# Altium integrated library 74X Series Logic.IntLib: 56 symbols (part 1 of 2)
Pins are listed as number, name and electrical type; pins without a type are passive.

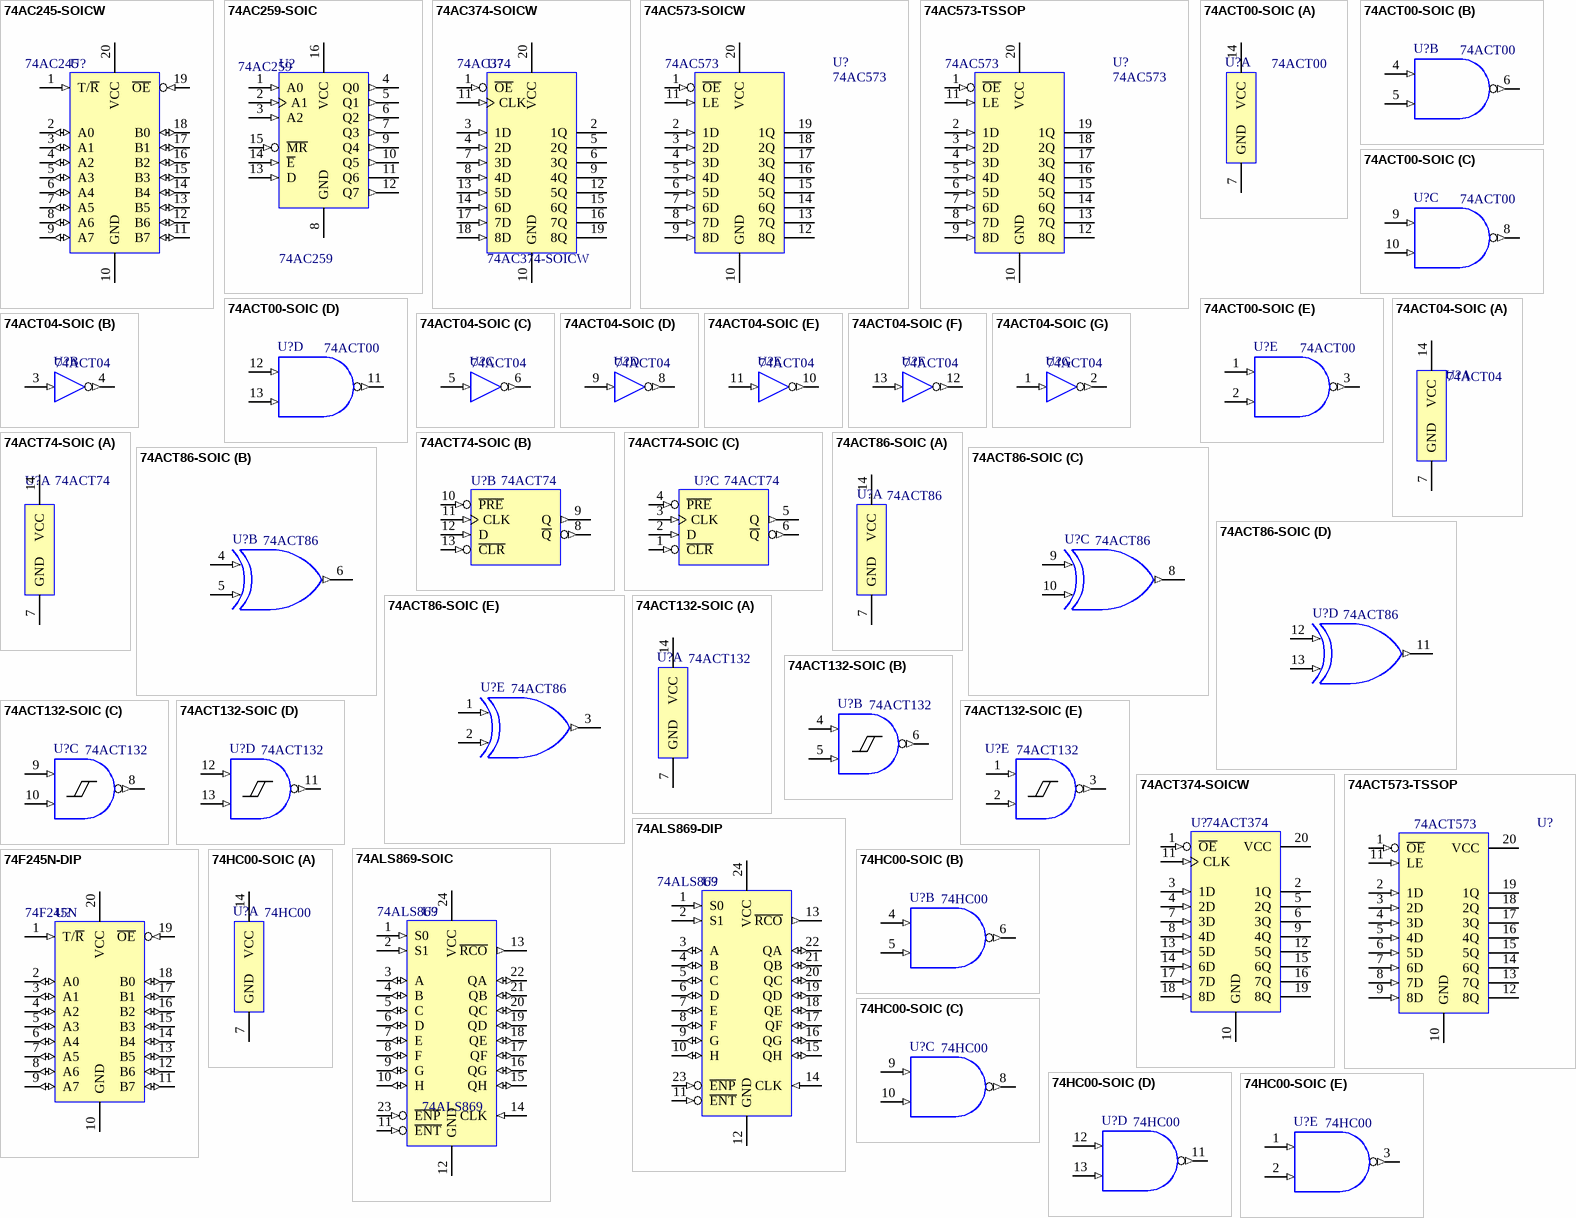
[diagram p0: symbols 74AC245-SOICW to 74HC00-SOIC]

## 74AC245-SOICW
designator U?, comment 74AC245
Octal Bidirectional Transceiver with 3 State I/O; Manufacturer: Texas Instruments/Fairchild Semiconductor/NXP Semiconductor; Output Current (High/Low): 24mA/24mA; Supply Voltage: 2V~6V; Logic Level (High): *; Logic Level (Low): *; Logic Type: Transceiver; Max Propagation Delay: *; Package Description: SOIC, 20-Leads, Body 12.80x7.50mm, Pitch 1.27mm, IPC Low Density; Package Type: SOIC-20-WIDE; Supplier 1: Mouser; Supplier Part Number 1: 595-CD74AC245M; Supplier 2: Digi-Key; Supplier Part Number 2: 296-32960-5-ND; Supplier 3: Newark; Supplier Part Number 3: 25M8563; Verified By: KMc; Part Number: 74AC245
footprint SOIC-20-WIDE (SOIC, 20-Leads, Body 12.80x7.50mm, Pitch 1.27mm, IPC Low Density)
3D model SOIC_20-wide (PCB3D Model)
ibis MC74AC245DW_5 (74AC245 5V IBIS model)
signal-integrity model 74AC246_5V (74AC246 5V IBIS Signal integrity model)
pins: 1 T/~{R} (in), 2 A0 (io), 3 A1 (io), 4 A2 (io), 5 A3 (io), 6 A4 (io), 7 A5 (io), 8 A6 (io), 9 A7 (io), 10 GND (power), 11 B7 (io), 12 B6 (io), 13 B5 (io), 14 B4 (io), 15 B3 (io), 16 B2 (io), 17 B1 (io), 18 B0 (io), 19 ~{OE} (in), 20 VCC (power)

## 74AC259-SOIC
designator U?, comment 74AC259
8 Bit addressable latch; Manufacturer: Texas Instruments/Fairchild Semiconductor/NXP Semiconductor; Logic Type: D-Type Addressable Latch; Max Propagation Delay: 6.5nS; Output Current (High/Low): 24mA/24mA; Supply Voltage: 2V~6V; Logic Level (High): *; Logic Level (Low): *; Package Description: SOIC, 16-Leads, Body 9.90x3.90mm, Pitch 1.27mm, IPC Low Density; Package Type: SOIC-16; Supplier 1: Mouser; Supplier Part Number 1: 863-MC74AC259DG; Supplier 2: Digi-Key; Supplier Part Number 2: MC74AC259DG-ND; Verified By: KMc; Part Number: 74AC259
footprint SOIC-16 (SOIC, 16-Leads, Body 9.90x3.90mm, Pitch 1.27mm, IPC Low Density)
3D model SOIC-16 (PCB3D Model)
pins: 1 A0 (in), 2 A1 (in), 3 A2 (in), 4 Q0 (out), 5 Q1 (out), 6 Q2 (out), 7 Q3 (out), 8 GND (power), 9 Q4 (out), 10 Q5 (out), 11 Q6 (hiz), 12 Q7 (out), 13 D (in), 14 ~{E} (in), 15 ~{MR} (in), 16 VCC (power)

## 74AC374-SOICW
designator U?  Part Number: 74AC374
Octal D-Type positive edge triggered flip flop.  3 State.; Manufacturer: Texas Instruments/Fairchild Semiconductor/NXP Semiconductor; Logic Level (Low): KMc; Logic Type: D-Type Non Inverted; Max Propagation Delay: 15.1nS @5V; Output Current (High/Low): 24mA/24mA; Supply Voltage: 1.5V~5.5V; Logic Level (High): *; Package Description: SOIC, 20-Leads, Body 12.80x7.50mm, Pitch 1.27mm, IPC Low Density; Package Type: SOIC-20-WIDE; Supplier 1: Digi-Key; Supplier Part Number 1: 296-1060-5-ND; Supplier 2: Mouser; Supplier Part Number 2: 595-SN74AC374DW; Supplier 3: Newark; Supplier Part Number 3: 35K0762; Verified By: *
footprint SOIC-20-WIDE (SOIC, 20-Leads, Body 12.80x7.50mm, Pitch 1.27mm, IPC Low Density)
3D model SOIC_20-wide (PCB3D Model)
ibis MC74AC374DW_5 (74AC374 5V IBIS Model)
signal-integrity model 74AC374 5V (74AC374 5V IBIS signal integrity model)
pins: 1 ~{OE} (in), 2 1Q (hiz), 3 1D (in), 4 2D (in), 5 2Q (hiz), 6 3Q (hiz), 7 3D (in), 8 4D (in), 9 4Q (hiz), 10 GND (power), 11 CLK (in), 12 5Q (hiz), 13 5D (in), 14 6D (in), 15 6Q (hiz), 16 7Q (hiz), 17 7D (in), 18 8D (in), 19 8Q (hiz), 20 VCC (power)

## 74AC573-SOICW
designator U?, comment 74AC573
Octal D-Type 3 State Transparent Latch; Manufacturer: Texas Instruments/Fairchild Semiconductor/NXP Semiconductor; Max Propagation Delay: 2.5nS; Output Current (High/Low): 24mA/24mA; Supply Voltage: 2V~6V; Logic Level (High): *; Logic Level (Low): *; Logic Type: Latch; Package Description: SOIC, 20-Leads, Body 12.80x7.50mm, Pitch 1.27mm, IPC Low Density; Package Type: SOIC-20-Wide; Supplier 1: Digi-Key; Supplier Part Number 1: 296-1061-5-ND; Supplier 2: Mouser; Supplier Part Number 2: 595-SN74AC573DW; Supplier 3: Newark; Supplier Part Number 3: 98K0239; Verified By: KMc; Part Number: 74AC573
footprint SOIC-20-WIDE (SOIC, 20-Leads, Body 12.80x7.50mm, Pitch 1.27mm, IPC Low Density)
3D model SOIC_20-wide (PCB3D Model)
ibis MC74AC573DW_5 (74AC573 5V IBIS Model)
signal-integrity model 74AC573 5V (IBIS Signal integrity model)
pins: 1 ~{OE} (in), 2 1D (in), 3 2D (in), 4 3D (in), 5 4D (in), 6 5D (in), 7 6D (in), 8 7D (in), 9 8D (in), 10 GND (power), 11 LE (in), 12 8Q (hiz), 13 7Q (hiz), 14 6Q (hiz), 15 5Q (hiz), 16 4Q (hiz), 17 3Q (hiz), 18 2Q (hiz), 19 1Q (hiz), 20 VCC (power)

## 74AC573-TSSOP
designator U?, comment 74AC573
Octal D-Type 3 State Transparent Latch; Manufacturer: Texas Instruments/Fairchild Semiconductor/NXP Semiconductor; Max Propagation Delay: 2.5nS; Output Current (High/Low): 24mA/24mA; Supply Voltage: 2V~6V; Logic Level (High): *; Logic Level (Low): *; Logic Type: Latch; Package Description: TSOP, 20-Leads, Body 6.50x4.40mm, Pitch 0.65mm, IPC Low Density; Package Type: TSSOP-20; Supplier 1: Newark; Supplier Part Number 1: 98K0240; Supplier 2: Mouser; Supplier Part Number 2: 595-SN74AC573PW; Supplier 3: Digi-Key; Supplier Part Number 3: 296-33650-5-ND; Verified By: KMc; Part Number: 74AC573
footprint TSOP-20 (TSOP, 20-Leads, Body 6.50x4.40mm, Pitch 0.65mm, IPC Low Density)
3D model TSSOP-20 (PCB3D Model)
ibis MC74AC573DW_5 (74AC573 5V IBIS Model)
signal-integrity model 74AC573 5V (74AC573 5V IBIS signal integrity model)
pins: 1 ~{OE} (in), 2 1D (in), 3 2D (in), 4 3D (in), 5 4D (in), 6 5D (in), 7 6D (in), 8 7D (in), 9 8D (in), 10 GND (power), 11 LE (in), 12 8Q (hiz), 13 7Q (hiz), 14 6Q (hiz), 15 5Q (hiz), 16 4Q (hiz), 17 3Q (hiz), 18 2Q (hiz), 19 1Q (hiz), 20 VCC (power)

## 74ACT00-SOIC
designator U?, comment 74ACT00
2-input positive NAND gate.  4 Element; Manufacturer: Texas Instruments/Fairchild Semiconductor/NXP Semiconductor; Supply Voltage: 4.5V~5.5V; Logic Level (Low): 0.8V; Logic Level (High): 2V; Max Propagation Delay: 9nS @ 5V; Output Current (High/Low): 24mA/24mA; Logic Type: NAND Gate; Package Description: SOIC, 14-Leads, Body 8.65x3.90mm, Pitch 1.27mm, IPC Low Density; Package Type: SOIC-14; Supplier 1: Digi-Key; Supplier Part Number 1: 296-8377-5-ND; Supplier 2: Newark; Supplier Part Number 2: 98K0297; Supplier 3: Mouser; Supplier Part Number 3: 595-SN74HCT00D; Verified By: KMc; Part Number: 74ACT00
footprint SOIC-14 (SOIC, 14-Leads, Body 8.65x3.90mm, Pitch 1.27mm, IPC Low Density)
3D model SOIC-14 (PCB3D Model)
ibis MC74ACT00D (74ACT00 IBIS Model)
signal-integrity model 74ACT00 Model (74ACT00 IBIS Signal integrity model)
part A pins: 7 GND (power), 14 VCC (power)
part B pins: 4 (in), 5 (in), 6 (out)
part C pins: 8 (out), 9 (in), 10 (in)
part D pins: 11 (out), 12 (in), 13 (in)
part E pins: 1 (in), 2 (in), 3 (out)

## 74ACT04-SOIC
designator U?, comment 74ACT04
Hex Inverter.  6 Element; Manufacturer: Texas Instruments/Fairchild Semiconductor/NXP Semiconductor; Supply Voltage: 4.5V~5.5V; Max Propagation Delay: 8.5nS @ 5V; Logic Level (Low): 0.8V; Logic Level (High): 2V; Output Current (High/Low): 24mA/24mA; Package Description: SOIC, 14-Leads, Body 8.65x3.90mm, Pitch 1.27mm, IPC Low Density; Logic Type: Inverter; Package Type: SOIC-14; Supplier 1: Mouser; Supplier Part Number 1: 512-74ACT04SC; Supplier 2: Newark; Supplier Part Number 2: 99K0473; Supplier 3: Digi-Key; Supplier Part Number 3: 74ACT04SCXCT-ND; Verified By: KMc; Part Number: 74ACT04
footprint SOIC-14 (SOIC, 14-Leads, Body 8.65x3.90mm, Pitch 1.27mm, IPC Low Density)
3D model SOIC-14 (PCB3D Model)
signal-integrity model 74ACT04 (74ACT04 IBIS signal integrity model)
ibis MC74ACT04D (74ACT04 IBIS model)
part A pins: 7 GND, 14 VCC
part B pins: 3 A (in), 4 Y (out)
part C pins: 5 A (in), 6 Y (out)
part D pins: 8 Y (out), 9 A (in)
part E pins: 10 Y (out), 11 A (in)
part F pins: 12 Y (out), 13 A (in)
part G pins: 1 A (in), 2 Y (out)

## 74ACT74-SOIC
designator U?, comment 74ACT74
D-Type positive edge triggered flip-flop w/ preset and clear.  2 Element; Manufacturer: Texas Instruments/Fairchild Semiconductor/NXP Semiconductor; Logic Type: D-Type Flip Flop; Max Propagation Delay: 7.5nS @ 5V; Output Current (High/Low): 24mA, 24mA; Supply Voltage: 4.5V~5.5V; Output Type: Differential; Logic Level (High): *; Logic Level (Low): *; Package Description: SOIC, 14-Leads, Body 8.65x3.90mm, Pitch 1.27mm, IPC Low Density; Package Type: SOIC-14; Supplier 1: Digi-Key; Supplier Part Number 1: 296-1079-5-ND; Supplier 2: Newark; Supplier Part Number 2: 98K0230; Verified By: KMc; Part Number: 74ACT74
footprint SOIC-14 (SOIC, 14-Leads, Body 8.65x3.90mm, Pitch 1.27mm, IPC Low Density)
3D model SOIC-14 (PCB3D Model)
ibis MC74ACT74D (74ACT74 IBIS Model)
signal-integrity model 74ACT74 (74ACT74 IBIS signal integrity Model)
part A pins: 7 GND (power), 14 VCC (power)
part B pins: 8 ~{Q} (out), 9 Q (out), 10 ~{PRE} (in), 11 CLK (in), 12 D (in), 13 ~{CLR} (in)
part C pins: 1 ~{CLR} (in), 2 D (in), 3 CLK (in), 4 ~{PRE} (in), 5 Q (out), 6 ~{Q} (out)

## 74ACT86-SOIC
designator U?, comment 74ACT86
2-input XOR gate.  4 Element; Manufacturer: Texas Instruments/Fairchild Semiconductor/NXP Semiconductor; Logic Level (Low): 0.7V~0.8V; Logic Level (High): 1.7V~2V; Max Propagation Delay: 4.4nS @ 3.3V, 50pF; Output Current (High/Low): 24mA/24mA; Supply Voltage: 1.65V~3.6V; Logic Type: XOR; Package Description: SOIC, 14-Leads, Body 8.65x3.90mm, Pitch 1.27mm, IPC Low Density; Package Type: SOIC-14; Supplier 1: Newark; Supplier Part Number 1: 42K0753; Supplier 2: Mouser; Supplier Part Number 2: 863-MC74ACT86DG; Supplier 3: Digi-Key; Supplier Part Number 3: MC74ACT86DGOS-ND; Verified By: KMc; Part Number: 74ACT86
footprint SOIC-14 (SOIC, 14-Leads, Body 8.65x3.90mm, Pitch 1.27mm, IPC Low Density)
3D model SOIC-14 (PCB3D Model)
ibis MC74ACT86D (74ACT86 IBIS Model)
signal-integrity model 74ACT86 (74ACT86 IBIS Signal Integrity Model)
part A pins: 7 GND (power), 14 VCC (power)
part B pins: 4 (in), 5 (in), 6 (out)
part C pins: 8 (out), 9 (in), 10 (in)
part D pins: 11 (out), 12 (in), 13 (in)
part E pins: 1 (in), 2 (in), 3 (out)

## 74ACT132-SOIC
designator U?, comment 74ACT132
2 Input Positive NAND gate, Schmitt Triggers.  4 Element; Manufacturer: Texas Instruments/Fairchild Semiconductor/NXP Semiconductor; Logic Level (High): 2V; Logic Level (Low): 0.8V; Max Propagation Delay: 11.5nS @ 5V; Output Current (High/Low): 24mA/24mA; Supply Voltage: 4.5V~5.5V; Logic Type: NAND Gate; Package Description: SOIC, 14-Leads, Body 8.65x3.90mm, Pitch 1.27mm, IPC Low Density; Package Type: SOIC-14; Supplier 1: Newark; Supplier Part Number 1: 42K0691; Supplier 2: Mouser; Supplier Part Number 2: 863-MC74ACT132DG; Supplier 3: Digi-Key; Supplier Part Number 3: MC74ACT132DGOS-ND; Verified By: KMc; Part Number: 74ACT132
footprint SOIC-14 (SOIC, 14-Leads, Body 8.65x3.90mm, Pitch 1.27mm, IPC Low Density)
3D model SOIC-14 (PCB3D Model)
signal-integrity model 74ACT132 (74ACT74 IBIS Signal Integrity Model)
ibis MC74ACT132D (74ACT132 IBIS Model)
part A pins: 7 GND (power), 14 VCC (power)
part B pins: 4 (in), 5 (in), 6 (out)
part C pins: 8 (out), 9 (in), 10 (in)
part D pins: 11 (out), 12 (in), 13 (in)
part E pins: 1 (in), 2 (in), 3 (out)

## 74ACT374-SOICW
designator U?  Part Number: 74ACT374  (hidden comment: 74ACT374-SOICW)
Octal D-Type positive edge triggered flip flop.  3 State.; Manufacturer: Texas Instruments/Fairchild Semiconductor/NXP Semiconductor; Logic Type: D-Type Non Inverted; Max Propagation Delay: 8.5nS @ 5V; Output Current (High/Low): 24mA/24mA; Supply Voltage: 4.5V~5.5V; Logic Level (High): *; Logic Level (Low): *; Package Description: SOIC, 20-Leads, Body 12.80x7.50mm, Pitch 1.27mm, IPC Low Density; Package Type: SOIC-20-WIDE; Supplier 1: Newark; Supplier Part Number 1: 50R5815; Supplier 2: Mouser; Supplier Part Number 2: 595-SN74ACT374DW; Supplier 3: Digi-Key; Supplier Part Number 3: 296-1077-5-ND; Verified By: KMc
footprint SOIC-20-WIDE (SOIC, 20-Leads, Body 12.80x7.50mm, Pitch 1.27mm, IPC Low Density)
3D model SOIC_20-wide (PCB3D Model)
ibis MC74ACT374 (74ACT374 IBIS Model)
signal-integrity model 74ACT374 (74ACT374 IBIS Signal Integrity Model)
pins: 1 ~{OE} (in), 2 1Q (hiz), 3 1D (in), 4 2D (in), 5 2Q (hiz), 6 3Q (hiz), 7 3D (in), 8 4D (in), 9 4Q (hiz), 10 GND (power), 11 CLK (in), 12 5Q (hiz), 13 5D (in), 14 6D (in), 15 6Q (hiz), 16 7Q (hiz), 17 7D (in), 18 8D (in), 19 8Q (hiz), 20 VCC (power)

## 74ACT573-TSSOP
designator U?, comment 74ACT573
Octal D-Type 3 State Transparent Latch; Manufacturer: Texas Instruments/Fairchild Semiconductor/NXP Semiconductor; Max Propagation Delay: 6nS; Output Current (High/Low): 24mA/24mA; Supply Voltage: 4.5V~5.5V; Logic Level (High): *; Logic Level (Low): *; Logic Type: Latch; Package Description: TSOP, 20-Leads, Body 6.50x4.40mm, Pitch 0.65mm, IPC Low Density; Package Type: TSSOP-20; Supplier 1: Mouser; Supplier Part Number 1: 595-SN74ACT573PW; Supplier 2: Digi-Key; Supplier Part Number 2: 296-33661-5-ND; Supplier 3: Newark; Supplier Part Number 3: 98K0228; Verified By: KMc; Part Number: 74ACT573
footprint TSOP-20 (TSOP, 20-Leads, Body 6.50x4.40mm, Pitch 0.65mm, IPC Low Density)
3D model TSSOP-20 (PCB3D Model)
ibis MC74ACT573DW (74ACT573 IBIS Model)
signal-integrity model 74ACT573 (74ACT573 IBIS Signal Integrity Model)
pins: 1 ~{OE} (in), 2 1D (in), 3 2D (in), 4 3D (in), 5 4D (in), 6 5D (in), 7 6D (in), 8 7D (in), 9 8D (in), 10 GND (power), 11 LE (in), 12 8Q (hiz), 13 7Q (hiz), 14 6Q (hiz), 15 5Q (hiz), 16 4Q (hiz), 17 3Q (hiz), 18 2Q (hiz), 19 1Q (hiz), 20 VCC (power)

## 74ALS869-DIP
designator U?, comment 74ALS869
Synchronous 8 bit binary up/down counter; Manufacturer: Texas Instruments/Fairchild Semiconductor/NXP Semiconductor; Supply Voltage: 4.5V~5.5V; Logic Level (High): *; Logic Level (Low): *; Logic Type: Up/Down Counter; Max Propagation Delay: *; Output Current (High/Low): *; Package Description: DIP; 24 Trim Leads; Row Spacing 7.62 mm; Pitch 2.54 mm; Package Type: DIP-24; Supplier 1: Digi-Key; Supplier Part Number 1: 296-5091-5-ND; Supplier 2: Newark; Supplier Part Number 2: 65K1075; Supplier 3: Mouser; Supplier Part Number 3: 595-SN74ALS869NT; Verified By: ***had to rebuild - needs verification***; Part Number: 74ALS869
footprint DIP-24 (DIP; 24 Trim Leads; Row Spacing 7.62 mm; Pitch 2.54 mm)
3D model DIP-24 (PCB3D Model)
pins: 1 S0 (in), 2 S1 (in), 3 A (io), 4 B (io), 5 C (io), 6 D (io), 7 E (io), 8 F (io), 9 G (io), 10 H (io), 11 ~{ENT} (in), 12 GND (power), 13 ~{RCO} (out), 14 CLK (in), 15 QH (io), 16 QG (io), 17 QF (io), 18 QE (io), 19 QD (io), 20 QC (io), 21 QB (io), 22 QA (io), 23 ~{ENP} (in), 24 VCC (power)

## 74ALS869-SOIC
designator U?, comment 74ALS869
Synchronous 8 bit binary up/down counter; Manufacturer: Texas Instruments/Fairchild Semiconductor/NXP Semiconductor; Supply Voltage: 4.5V~5.5V; Logic Level (High): *; Logic Level (Low): *; Logic Type: Up/Down Counter; Max Propagation Delay: *; Output Current (High/Low): *; Package Description: Small Outline; 24 Leads; Body Width 7.5 mm; Pitch 1.27 mm; Package Type: SOIC-24; Supplier 1: Mouser; Supplier Part Number 1: 595-SN74ALS869DW; Supplier 2: Digi-Key; Supplier Part Number 2: 296-5090-5-ND; Verified By: ** had to rebuild - please check **; Part Number: 74ALS869
footprint SOIC-24 (Small Outline; 24 Leads; Body Width 7.5 mm; Pitch 1.27 mm)
3D model SOIC-24 (PCB3D Model)
pins: 1 S0 (in), 2 S1 (in), 3 A (io), 4 B (io), 5 C (io), 6 D (io), 7 E (io), 8 F (io), 9 G (io), 10 H (io), 11 ~{ENT} (in), 12 GND (power), 13 ~{RCO} (out), 14 CLK (in), 15 QH (io), 16 QG (io), 17 QF (io), 18 QE (io), 19 QD (io), 20 QC (io), 21 QB (io), 22 QA (io), 23 ~{ENP} (in), 24 VCC (power)

## 74F245N-DIP
designator U?  Part Number: 74F245N  (hidden comment: 74F245N-DIP)
Octal Bidirectional Transceiver with 3 State I/O; Manufacturer: Texas Instruments/Fairchild Semiconductor/NXP Semiconductor; Output Current (High/Low): 24mA/24mA; Supply Voltage: 1.5V~5.5V; Logic Level (High): *; Logic Level (Low): *; Logic Type: Transceiver; Max Propagation Delay: *; Package Description: DIP; 20 Trim Leads; Row Spacing 7.62 mm; Pitch 2.54 mm; Package Type: DIP-20; Supplier 1: Digi-Key; Supplier Part Number 1: 296-3572-5-ND; Supplier 2: Mouser; Supplier Part Number 2: 595-SN74F245N; Supplier 3: Newark; Supplier Part Number 3: 60K6802; Verified By: KMc
footprint DIP-20 (DIP; 20 Trim Leads; Row Spacing 7.62 mm; Pitch 2.54 mm)
3D model DIP-20 (PCB3D Model)
pins: 1 T/~{R} (in), 2 A0 (io), 3 A1 (io), 4 A2 (io), 5 A3 (io), 6 A4 (io), 7 A5 (io), 8 A6 (io), 9 A7 (io), 10 GND (power), 11 B7 (io), 12 B6 (io), 13 B5 (io), 14 B4 (io), 15 B3 (io), 16 B2 (io), 17 B1 (io), 18 B0 (io), 19 ~{OE} (in), 20 VCC (power)

## 74HC00-SOIC
designator U?, comment 74HC00
2-input positive NAND gate.  4 Element; Manufacturer: Texas Instruments/Fairchild Semiconductor/NXP Semiconductor; Supply Voltage: 2V~6V; Logic Level (Low): 1.5V~4.2V; Logic Level (High): 0.5V~1.8V; Max Propagation Delay: 15nS @ 6V; Output Current (High/Low): 5.2mA/5.2mA; Logic Type: NAND Gate; Package Description: SOIC, 14-Leads, Body 8.65x3.90mm, Pitch 1.27mm, IPC Low Density; Package Type: SOIC-14; Supplier 1: Mouser; Supplier Part Number 1: 595-SN74HC00DR; Supplier 2: Digi-Key; Supplier Part Number 2: 296-1187-1-ND; Supplier 3: Mouser; Supplier Part Number 3: 595-SN74HC00D; Supplier 4: Newark; Supplier Part Number 4: 98K0338; Verified By: KMc; Part Number: 74HC00
footprint SOIC-14 (SOIC, 14-Leads, Body 8.65x3.90mm, Pitch 1.27mm, IPC Low Density)
3D model SOIC-14 (PCB3D Model)
ibis MC74HC00AD (74HC00 IBIS Model)
signal-integrity model 74HC00 (74HC00 IBIS Signal Integrity Model)
part A pins: 7 GND (power), 14 VCC (power)
part B pins: 4 (in), 5 (in), 6 (out)
part C pins: 8 (out), 9 (in), 10 (in)
part D pins: 11 (out), 12 (in), 13 (in)
part E pins: 1 (in), 2 (in), 3 (out)

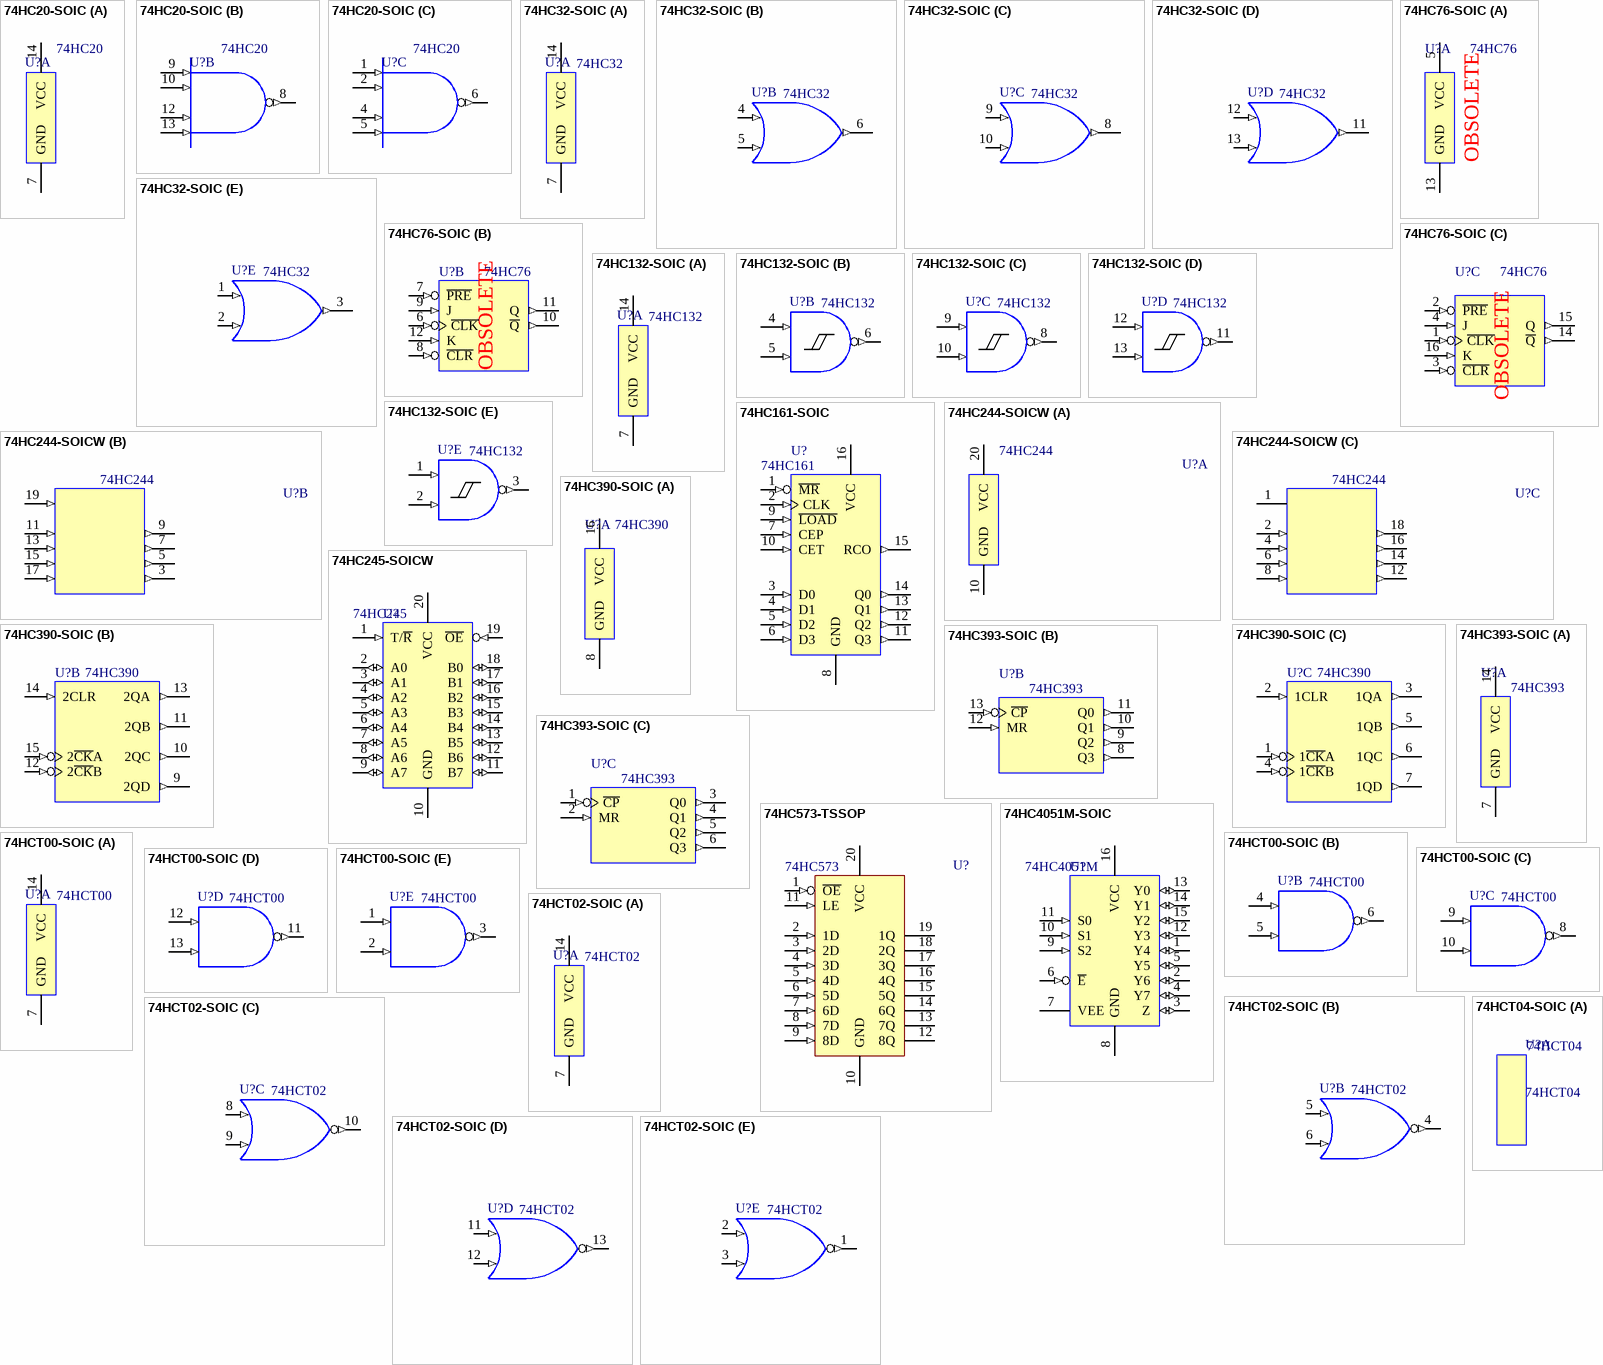
[diagram p1: symbols 74HC20-SOIC to 74HCT04-SOIC]

## 74HC20-SOIC
designator U?, comment 74HC20
4-input positive NAND gate.  2 Element; Manufacturer: Texas Instruments/Fairchild Semiconductor/NXP Semiconductor; Supply Voltage: 2V~6V; Logic Level (Low): 0.5V~1.8V; Logic Level (High): 1.5V~4.2V; Max Propagation Delay: 19nS @ 6V; Output Current (High/Low): 5.2mA/5.2mA; Logic Type: NAND Gate; Package Description: SOIC, 14-Leads, Body 8.65x3.90mm, Pitch 1.27mm, IPC Low Density; Package Type: *; Supplier 1: Digi-Key; Supplier Part Number 1: 296-26471-5-ND; Supplier 2: Mouser; Supplier Part Number 2: 595-SN74HC20D; Supplier 3: Newark; Supplier Part Number 3: 70C4339; Verified By: KMc; Part Number: 74HC20
footprint SOIC-14 (SOIC, 14-Leads, Body 8.65x3.90mm, Pitch 1.27mm, IPC Low Density)
3D model SOIC-14 (PCB3D Model)
ibis MC74HC20D (74HC20 IBIS Model)
signal-integrity model 74HC20 (74HC00 IBIS Signal Integrity Model)
part A pins: 7 GND (power), 14 VCC (power)
part B pins: 8 (out), 9 (in), 10 (in), 12 (in), 13 (in)
part C pins: 1 (in), 2 (in), 4 (in), 5 (in), 6 (out)

## 74HC32-SOIC
designator U?, comment 74HC32
2 input positive OR gate.  4 Element; Manufacturer: Texas Instruments/Fairchild Semiconductor/NXP Semiconductor; Logic Level (High): 1.5V~4.2V; Logic Level (Low): 0.5V~1.8V; Logic Type: OR Gate; Max Propagation Delay: 17nS @ 6V; Output Current (High/Low): 5.2mA/5.2mA; Supply Voltage: 2V~6V; Package Description: SOIC, 14-Leads, Body 8.65x3.90mm, Pitch 1.27mm, IPC Low Density; Package Type: SOIC-14; Supplier 1: Mouser; Supplier Part Number 1: 595-SN74HC32D; Supplier 2: Digi-Key; Supplier Part Number 2: 296-1199-5-ND; Supplier 3: Newark; Supplier Part Number 3: 98K0394; Verified By: KMc; Part Number: 74HC32
footprint SOIC-14 (SOIC, 14-Leads, Body 8.65x3.90mm, Pitch 1.27mm, IPC Low Density)
3D model SOIC-14 (PCB3D Model)
signal-integrity model 74HC32 (74HC32 IBIS Signal Integrity Model)
ibis MC74HC32AN (74HC32 IBIS Model)
part A pins: 7 GND (power), 14 VCC (power)
part B pins: 4 (in), 5 (in), 6 (out)
part C pins: 8 (out), 9 (in), 10 (in)
part D pins: 11 (out), 12 (in), 13 (in)
part E pins: 1 (in), 2 (in), 3 (out)

## 74HC76-SOIC
designator U?, comment 74HC76
J-K Flip Flop with Preset and Clear.  2 Element.; Manufacturer: Texas Instruments/Fairchild Semiconductor/NXP Semiconductor; Logic Type: JK Flip Flop; Max Propagation Delay: 21nS @6V; Output Current (High/Low): 5.2mA/5.2mA; Supply Voltage: 2V~6V; Output Type: Differential; Logic Level (High): *; Logic Level (Low): *; Package Description: SOIC, 16-Leads, Body 9.90x3.90mm, Pitch 1.27mm, IPC Low Density; Package Type: SOIC-16; Verified By: KMc; Part Number: 74HC76
footprint SOIC-16 (SOIC, 16-Leads, Body 9.90x3.90mm, Pitch 1.27mm, IPC Low Density)
3D model SOIC-16 (PCB3D Model)
ibis MC74HC76D (74HC76 IBIS Model)
signal-integrity model 74HC76 (74HC76 IBIS Signal Integrity Model)
part A pins: 5 VCC (power), 13 GND (power)
part B pins: 6 ~{CLK} (in), 7 ~{PRE} (in), 8 ~{CLR} (in), 9 J (in), 10 ~{Q} (out), 11 Q (out), 12 K (in)
part C pins: 1 ~{CLK} (in), 2 ~{PRE} (in), 3 ~{CLR} (in), 4 J (in), 14 ~{Q} (out), 15 Q (out), 16 K (in)
part A text: OBSOLETE
part B text: OBSOLETE
part C text: OBSOLETE

## 74HC132-SOIC
designator U?, comment 74HC132
2 Input Positive NAND gate, Schmitt Triggers.  4 Element; Manufacturer: Texas Instruments/Fairchild Semiconductor/NXP Semiconductor; Logic Level (High): 1.5V~4.2V; Logic Level (Low): 0.3V~1.2V; Max Propagation Delay: 21nS @ 6V; Output Current (High/Low): 5.2mA/5.2mA; Supply Voltage: 2V~6V; Logic Type: NAND Gate; Package Description: SOIC, 14-Leads, Body 8.65x3.90mm, Pitch 1.27mm, IPC Low Density; Package Type: SOIC-14; Supplier 1: Newark; Supplier Part Number 1: 35K0803; Supplier 2: Digi-Key; Supplier Part Number 2: 296-14832-6-ND; Supplier 3: Mouser; Supplier Part Number 3: 595-SN74HC132DR; Verified By: KMc; Part Number: 74HC132
footprint SOIC-14 (SOIC, 14-Leads, Body 8.65x3.90mm, Pitch 1.27mm, IPC Low Density)
3D model SOIC-14 (PCB3D Model)
ibis MC74HC132AD (74HC132 IBIS Model)
signal-integrity model 74HC132 (74HC132 IBIS Signal Integrity Model)
part A pins: 7 GND (power), 14 VCC (power)
part B pins: 4 (in), 5 (in), 6 (out)
part C pins: 8 (out), 9 (in), 10 (in)
part D pins: 11 (out), 12 (in), 13 (in)
part E pins: 1 (in), 2 (in), 3 (out)

## 74HC161-SOIC
designator U?, comment 74HC161
Presettable Synchronous 4 bit Binary Counter; Manufacturer: Texas Instruments/Fairchild Semiconductor/NXP Semiconductor; Reset: Asynchronous; Supply Voltage: 4.5V~5.5V; Trigger type: Positive Edge; Timing: Synchronous; Logic Type: Binary Counter; Max Propagation Delay: *; Output Current (High/Low): *; Package Description: SOIC, 16-Leads, Body 9.90x3.90mm, Pitch 1.27mm, IPC Low Density; Package Type: SOIC-16; Supplier 1: Mouser; Supplier Part Number 1: 595-SN74HC161D; Supplier 2: Newark; Supplier Part Number 2: 98K0369; Supplier 3: Digi-Key; Supplier Part Number 3: 296-8243-5-ND; Verified By: KMc; Part Number: 74HC161
footprint SOIC-16 (SOIC, 16-Leads, Body 9.90x3.90mm, Pitch 1.27mm, IPC Low Density)
3D model SOIC-16 (PCB3D Model)
pins: 1 ~{MR} (in), 2 CLK (in), 3 D0 (in), 4 D1 (in), 5 D2 (in), 6 D3 (in), 7 CEP (in), 8 GND (power), 9 ~{LOAD} (in), 10 CET (in), 11 Q3 (out), 12 Q2 (out), 13 Q1 (out), 14 Q0 (out), 15 RCO (out), 16 VCC (power)

## 74HC244-SOICW
designator U?, comment 74HC244
Octal 3 state Buffer/Line Driver/Line Reciever.  2 Element; Manufacturer: Texas Instruments/Fairchild Semiconductor/NXP Semiconductor; Logic Type: Buffer/Line Driver (Non Inverting); Output Current (High/Low): 7.8mA/7.8mA; Supply Voltage: 2V~6V; Logic Level (High): *; Logic Level (Low): *; Max Propagation Delay: *; Package Description: SOIC, 20-Leads, Body 12.80x7.50mm, Pitch 1.27mm, IPC Low Density; Package Type: SOIC-20-WIDE; Supplier 1: Digi-Key; Supplier Part Number 1: 296-1196-5-ND; Supplier 2: Newark; Supplier Part Number 2: 08F6485; Supplier 3: Mouser; Supplier Part Number 3: 595-SN74HC244DW; Verified By: KMc; Part Number: 74HC244
footprint SOIC-20-WIDE (SOIC, 20-Leads, Body 12.80x7.50mm, Pitch 1.27mm, IPC Low Density)
3D model SOIC_20-wide (PCB3D Model)
ibis MC74HC244ADW (74HC244 IBIS Model)
signal-integrity model 74HC244 (74HC244 IBIS Signal Integrity Model)
part A pins: 10 GND (power), 20 VCC (power)
part B pins: 3 2Y4 (out), 5 2Y3 (out), 7 2Y2 (out), 9 2Y1 (out), 11 2A1 (in), 13 2A2 (in), 15 2A3 (in), 17 2A4 (in), 19 ~{OE2} (in)
part C pins: 1 ~{OE1}, 2 1A1 (in), 4 1A2 (in), 6 1A3 (in), 8 1A4 (in), 12 1Y4 (out), 14 1Y3 (out), 16 1Y2 (out), 18 1Y1 (out)

## 74HC245-SOICW
designator U?, comment 74HC245
Octal Bidirectional Transceiver with 3 State I/O; Manufacturer: Texas Instruments/Fairchild Semiconductor/NXP Semiconductor; Output Current (High/Low): 7.8mA/7.8mA; Supply Voltage: 2V~6V; Logic Level (High): *; Logic Level (Low): *; Logic Type: Transceiver; Max Propagation Delay: *; Package Description: SOIC, 20-Leads, Body 12.80x7.50mm, Pitch 1.27mm, IPC Low Density; Package Type: SOIC-20-WIDE; Supplier 1: Mouser; Supplier Part Number 1: 595-SN74HC245DW; Supplier 2: Digi-Key; Supplier Part Number 2: 296-1197-5-ND; Supplier 3: Newark; Supplier Part Number 3: 67K2845; Verified By: KMc; Part Number: 74HC245
footprint SOIC-20-WIDE (SOIC, 20-Leads, Body 12.80x7.50mm, Pitch 1.27mm, IPC Low Density)
3D model SOIC_20-wide (PCB3D Model)
signal-integrity model 74HC245 (74HC245 IBIS Signal Integrity Model)
ibis MC74HC245ADW (74HC245 IBIS Model)
pins: 1 T/~{R} (in), 2 A0 (io), 3 A1 (io), 4 A2 (io), 5 A3 (io), 6 A4 (io), 7 A5 (io), 8 A6 (io), 9 A7 (io), 10 GND (power), 11 B7 (io), 12 B6 (io), 13 B5 (io), 14 B4 (io), 15 B3 (io), 16 B2 (io), 17 B1 (io), 18 B0 (io), 19 ~{OE} (in), 20 VCC (power)

## 74HC390-SOIC
designator U?, comment 74HC390
4 Bit decade and bi-quinary ripple counter, negative edge trigger.  2 Element; Manufacturer: Texas Instruments/Fairchild Semiconductor/NXP Semiconductor; Logic Type: Counter, Decade; Supply Voltage: 2V~6V; Logic Level (High): *; Logic Level (Low): *; Max Propagation Delay: *; Output Current (High/Low): *; Package Description: SOIC, 16-Leads, Body 9.90x3.90mm, Pitch 1.27mm, IPC Low Density; Package Type: SOIC-16; Supplier 1: Digi-Key; Supplier Part Number 1: 568-2672-5-ND; Supplier 2: Mouser; Supplier Part Number 2: 771-HC390D652; Supplier 3: Newark; Supplier Part Number 3: 71R2409; Verified By: KMc; Part Number: 74HC390
footprint SOIC-16 (SOIC, 16-Leads, Body 9.90x3.90mm, Pitch 1.27mm, IPC Low Density)
3D model SOIC-16 (PCB3D Model)
ibis MC74HC390D (74HC390 IBIS Model)
signal-integrity model 74HC390 (74HC390 IBIS Signal Integrity Model)
part A pins: 8 GND (power), 16 VCC (power)
part B pins: 9 2QD (out), 10 2QC (out), 11 2QB (out), 12 2~{CK}B (in), 13 2QA (out), 14 2CLR (in), 15 2~{CK}A (in)
part C pins: 1 1~{CK}A (in), 2 1CLR (in), 3 1QA (out), 4 1~{CK}B (in), 5 1QB (out), 6 1QC (out), 7 1QD (out)

## 74HC393-SOIC
designator U?, comment 74HC393
4 Bit binary counter, negative edge trigger.  2 Element; Manufacturer: Texas Instruments/Fairchild Semiconductor/NXP Semiconductor; Logic Type: Counter, Decade; Supply Voltage: 2V~6V; Logic Level (High): *; Logic Level (Low): *; Max Propagation Delay: *; Output Current (High/Low): *; Package Description: SOP, 16-Leads, Body 6.2x5.3mm, Pitch 0.65mm, IPC Low Density; Package Type: SSOP-16; Supplier 1: Newark; Supplier Part Number 1: 71R2417; Supplier 2: Mouser; Supplier Part Number 2: 771-HC393D652; Supplier 3: Digi-Key; Supplier Part Number 3: 568-8287-5-ND; Verified By: KMc; Part Number: 74HC393
footprint SOIC-14 (SOIC, 14-Leads, Body 8.65x3.90mm, Pitch 1.27mm, IPC Low Density)
3D model SOIC-14 (PCB3D Model)
signal-integrity model 74HC393 (74HC393 IBIS Signal Integrity Model)
ibis MC74HC393D (74HC393 IBIS Model)
part A pins: 7 GND (power), 14 VCC (power)
part B pins: 8 Q3 (out), 9 Q2 (out), 10 Q1 (out), 11 Q0 (out), 12 MR (in), 13 ~{CP} (in)
part C pins: 1 ~{CP} (in), 2 MR (in), 3 Q0 (out), 4 Q1 (out), 5 Q2 (out), 6 Q3 (out)

## 74HC573-TSSOP
designator U?, comment 74HC573
Octal D-Type 3 State Transparent Latch; Manufacturer: Texas Instruments/Fairchild Semiconductor/NXP Semiconductor; Max Propagation Delay: 14nS; Output Current (High/Low): 7.8mA/7.8mA; Supply Voltage: 2V~6V; Logic Level (High): *; Logic Level (Low): *; Logic Type: Latch; Package Description: TSOP, 20-Leads, Body 6.50x4.40mm, Pitch 0.65mm, IPC Low Density; Package Type: TSSOP-20; Supplier 1: Mouser; Supplier Part Number 1: 771-74HC573PW; Supplier 2: Newark; Supplier Part Number 2: 85X2962; Supplier 3: Digi-Key; Supplier Part Number 3: 568-8290-5-ND; Verified By: KMc; Part Number: 74HC573
footprint TSOP-20 (TSOP, 20-Leads, Body 6.50x4.40mm, Pitch 0.65mm, IPC Low Density)
3D model TSSOP-20 (PCB3D Model)
ibis MC74HC573ADW (74HC573 IBIS Model)
signal-integrity model 74HC573 (74HC573 IBIS Signal Integrity Model)
pins: 1 ~{OE} (in), 2 1D (in), 3 2D (in), 4 3D (in), 5 4D (in), 6 5D (in), 7 6D (in), 8 7D (in), 9 8D (in), 10 GND (power), 11 LE (in), 12 8Q (hiz), 13 7Q (hiz), 14 6Q (hiz), 15 5Q (hiz), 16 4Q (hiz), 17 3Q (hiz), 18 2Q (hiz), 19 1Q (hiz), 20 VCC (power)

## 74HC4051M-SOIC
designator U?, comment 74HC4051M
Phase Lock Loop with Voltage Controlled Oscillator (38MHz Max); Manufacturer: Texas Instruments/Fairchild Semiconductor/NXP Semiconductor; Logic Type: Multiplexer/Demultiplexer; Supply Voltage: 4.5V~5.5V/ ±1V~5V; On State Resistance: 130 Ohm; Circuit: 1 x 8:1; Logic Level (High): -; Logic Level (Low): -; Max Propagation Delay: -; Output Current (High/Low): -; Package Description: SOIC, 16-Leads, Body 9.90x3.90mm, Pitch 1.27mm, IPC Low Density; Package Type: SOIC-16; Supplier 1: Newark; Supplier Part Number 1: 72K7849; Supplier 2: Mouser; Supplier Part Number 2: 595-CD74HC4051M; Supplier 3: Digi-Key; Supplier Part Number 3: 296-9216-5-ND; Verified By: KMc; Part Number: 74HC4051M
footprint SOIC-16 (SOIC, 16-Leads, Body 9.90x3.90mm, Pitch 1.27mm, IPC Low Density)
3D model SOIC-16 (PCB3D Model)
pins: 1 Y4 (io) "Independent input/output Y4", 2 Y6 (io) "Independent input/output Y6", 3 Z (io) "Common Output/Input", 4 Y7 (io) "Independent input/output Y7", 5 Y5 (io) "Independent input/output Y5", 6 ~{E} (in) "Enable Input (active low)", 7 VEE (power), 8 GND (power), 9 S2 (in) "Select Input", 10 S1 (in) "Select Input", 11 S0 (in) "Select input", 12 Y3 (io) "Independent input/output Y3", 13 Y0 (io) "Independent input/output Y0", 14 Y1 (io) "Independent input/output Y1", 15 Y2 (io) "Independent input/output Y2", 16 VCC (power)

## 74HCT00-SOIC
designator U?, comment 74HCT00
2-input positive NAND gate.  4 Element; Manufacturer: Texas Instruments/Fairchild Semiconductor/NXP Semiconductor; Supply Voltage: 4.5V~5.5V; Logic Level (Low): 0.8V; Logic Level (High): 2V; Max Propagation Delay: 18nS @ 5.5V; Output Current (High/Low): 4mA/4mA; Logic Type: NAND Gate; Package Description: SOIC, 14-Leads, Body 8.65x3.90mm, Pitch 1.27mm, IPC Low Density; Package Type: SOIC-14; Supplier 1: Digi-Key; Supplier Part Number 1: 296-8377-5-ND; Supplier 2: Mouser; Supplier Part Number 2: 771-74HCT00D-T; Supplier 3: Newark; Supplier Part Number 3: 01X2954; Supplier 4: Newark; Supplier Part Number 4: 98K0297; Supplier 5: Digi-Key; Supplier Part Number 5: 568-1498-6-ND; Supplier 6: Mouser; Supplier Part Number 6: 595-SN74HCT00D; Verified By: KMc; Part Number: 74HCT00
footprint SOIC-14 (SOIC, 14-Leads, Body 8.65x3.90mm, Pitch 1.27mm, IPC Low Density)
3D model SOIC-14 (PCB3D Model)
part A pins: 7 GND (power), 14 VCC (power)
part B pins: 4 (in), 5 (in), 6 (out)
part C pins: 8 (out), 9 (in), 10 (in)
part D pins: 11 (out), 12 (in), 13 (in)
part E pins: 1 (in), 2 (in), 3 (out)

## 74HCT02-SOIC
designator U?, comment 74HCT02
2-input positive NOR gate.  4 Element; Manufacturer: Texas Instruments/Fairchild Semiconductor/NXP Semiconductor; Logic Level (High): 2V; Logic Level (Low): 0.8V; Max Propagation Delay: 18nS @ 5.5V; Output Current (High/Low): 4mA/4mA; Supply Voltage: 4.5V~5.5V; Logic Type: NOR Gate; Package Description: SOIC, 14-Leads, Body 8.65x3.90mm, Pitch 1.27mm, IPC Low Density; Package Type: SOIC-14; Supplier 1: Digi-Key; Supplier Part Number 1: 296-14861-1-ND; Supplier 2: Digi-Key; Supplier Part Number 2: 568-1500-6-ND; Supplier 3: Newark; Supplier Part Number 3: 76C3329; Supplier 4: Mouser; Supplier Part Number 4: 771-HCT02DB112; Supplier 5: Mouser; Supplier Part Number 5: 595-SN74HCT02DR; Verified By: KMc; Part Number: 74HCT02
footprint SOIC-14 (SOIC, 14-Leads, Body 8.65x3.90mm, Pitch 1.27mm, IPC Low Density)
3D model SOIC-14 (PCB3D Model)
part A pins: 7 GND (power), 14 VCC (power)
part B pins: 4 (out), 5 (in), 6 (in)
part C pins: 8 (in), 9 (in), 10 (out)
part D pins: 11 (in), 12 (in), 13 (out)
part E pins: 1 (out), 2 (in), 3 (in)

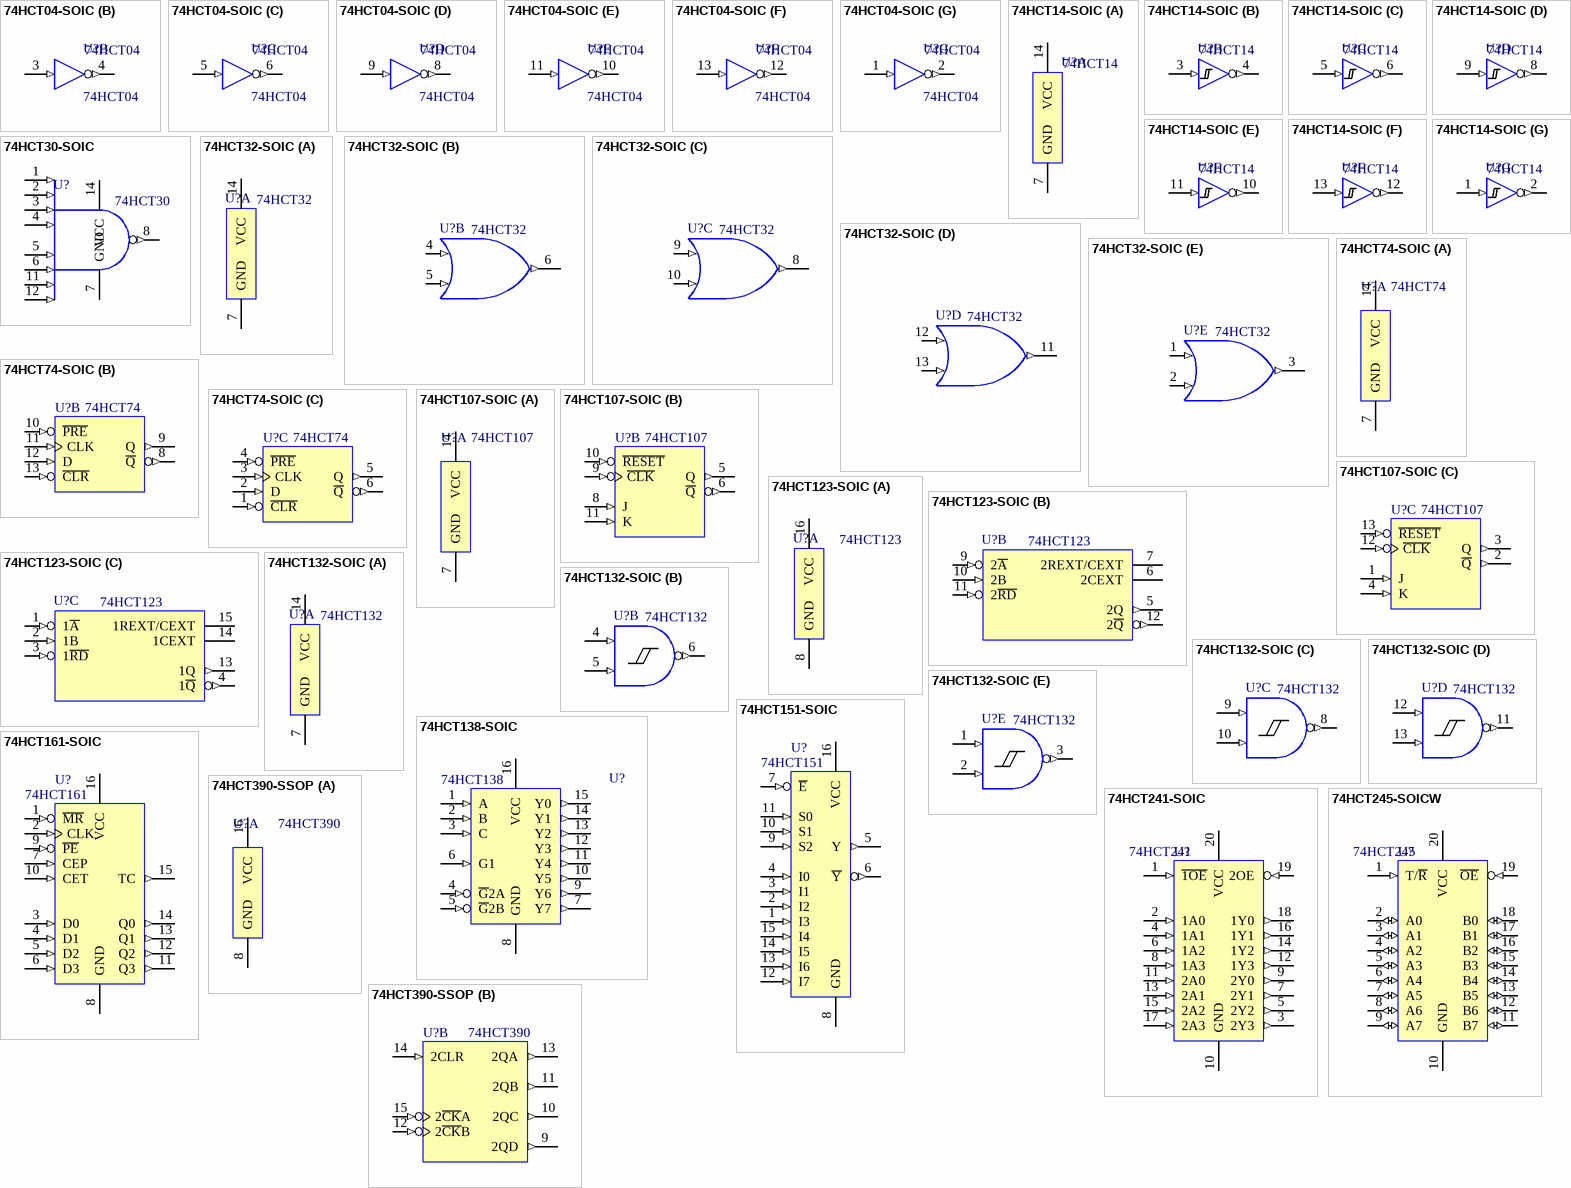
[diagram p2: symbols 74HCT04-SOIC to 74HCT390-SSOP]

## 74HCT04-SOIC
designator U?, comment 74HCT04
Hex Inverter.  6 Element; Manufacturer: Texas Instruments/Fairchild Semiconductor/NXP Semiconductor; Supply Voltage: 4.5V~5.5V; Max Propagation Delay: 18nS @ 5.5V; Logic Level (Low): 0.8V; Logic Level (High): 2V; Output Current (High/Low): 4mA/4mA; Package Description: SOIC, 14-Leads, Body 8.65x3.90mm, Pitch 1.27mm, IPC Low Density; Logic Type: Inverter; Package Type: SOIC-14; Supplier 1: Mouser; Supplier Part Number 1: 863-MC74HCT04ADG; Supplier 2: Digi-Key; Supplier Part Number 2: MC74HCT04ADGOS-ND; Supplier 3: Newark; Supplier Part Number 3: 71J5579; Verified By: KMc; Part Number: 74HCT04
footprint SOIC-14 (SOIC, 14-Leads, Body 8.65x3.90mm, Pitch 1.27mm, IPC Low Density)
3D model SOIC-14 (PCB3D Model)
ibis MC74HCT04AD (74HCT04 IBIS Model)
signal-integrity model 74HCT04 (74HCT04 IBIS Signal Integrity Model)
part A pins: 7 GND (power) hidden to GND, 14 VCC (power) hidden to VCC
part B pins: 3 A (in), 4 Y (out)
part C pins: 5 A (in), 6 Y (out)
part D pins: 8 Y (out), 9 A (in)
part E pins: 10 Y (out), 11 A (in)
part F pins: 12 Y (out), 13 A (in)
part G pins: 1 A (in), 2 Y (out)

## 74HCT14-SOIC
designator U?, comment 74HCT14
Hex Schmitt-Trigger Inverter, 6 Element; Manufacturer: Texas Instruments/Fairchild Semiconductor/NXP Semiconductor; Supply Voltage: 4.5V~5.5V; Max Propagation Delay: 30nS @ 5.5V; Logic Level (High): 1.9V~2.1V; Logic Level (Low): 0.5V~0.6V; Output Current (High/Low): 4mA/4mA; Package Description: SOIC, 14-Leads, Body 8.65x3.90mm, Pitch 1.27mm, IPC Low Density; Logic Type: Inverter; Package Type: SOIC-14; Supplier 1: Mouser; Supplier Part Number 1: 595-SN74HCT14D; Supplier 2: Digi-Key; Supplier Part Number 2: 296-8391-5-ND; Supplier 3: Newark; Supplier Part Number 3: 98K0307; Verified By: KMc; Part Number: 74HCT14
footprint SOIC-14 (SOIC, 14-Leads, Body 8.65x3.90mm, Pitch 1.27mm, IPC Low Density)
3D model SOIC-14 (PCB3D Model)
ibis MC74HCT14AD (74HCT14 IBIS Model)
signal-integrity model 74HCT14 (74HCT14 IBIS Signal Integrity Model)
part A pins: 7 GND (power), 14 VCC (power)
part B pins: 3 A (in), 4 Y (out)
part C pins: 5 A (in), 6 Y (out)
part D pins: 8 Y (out), 9 A (in)
part E pins: 10 Y (out), 11 A (in)
part F pins: 12 Y (out), 13 A (in)
part G pins: 1 A (in), 2 Y (out)

## 74HCT30-SOIC
designator U?, comment 74HCT30
8-input positive NAND gate.; Manufacturer: Texas Instruments/Fairchild Semiconductor/NXP Semiconductor; Supply Voltage: 4.5V~5.5V; Logic Level (Low): 0.8V; Logic Level (High): 2V; Max Propagation Delay: 28nS @ 4.5V; Output Current (High/Low): 4mA/4mA; Logic Type: NAND Gate; Package Description: SOIC, 14-Leads, Body 8.65x3.90mm, Pitch 1.27mm, IPC Low Density; Package Type: *; Supplier 1: Mouser; Supplier Part Number 1: 595-CD74HCT30M; Supplier 2: Digi-Key; Supplier Part Number 2: 296-9267-5-ND; Supplier 3: Newark; Supplier Part Number 3: 34R6949; Verified By: KMc; Part Number: 74HCT30
footprint SOIC-14 (SOIC, 14-Leads, Body 8.65x3.90mm, Pitch 1.27mm, IPC Low Density)
3D model SOIC-14 (PCB3D Model)
pins: 1 (in), 2 (in), 3 (in), 4 (in), 5 (in), 6 (in), 7 GND (power), 8 (out), 11 (in), 12 (in), 14 VCC (power)

## 74HCT32-SOIC
designator U?, comment 74HCT32
2 input positive OR gate.  4 Element; Manufacturer: Texas Instruments/Fairchild Semiconductor/NXP Semiconductor; Logic Level (High): 2V; Logic Level (Low): 0.8V; Logic Type: OR Gate; Max Propagation Delay: 22nS @ 5.5V; Output Current (High/Low): 4mA/4mA; Supply Voltage: 4.5V~5.5V; Package Description: SOIC, 14-Leads, Body 8.65x3.90mm, Pitch 1.27mm, IPC Low Density; Package Type: SOIC-14; Supplier 1: Mouser; Supplier Part Number 1: 595-SN74HCT32DR; Supplier 2: Digi-Key; Supplier Part Number 2: 296-14868-6-ND; Verified By: KMc; Part Number: 74HCT32
footprint SOIC-14 (SOIC, 14-Leads, Body 8.65x3.90mm, Pitch 1.27mm, IPC Low Density)
3D model SOIC-14 (PCB3D Model)
part A pins: 7 GND (power), 14 VCC (power)
part B pins: 4 (in), 5 (in), 6 (out)
part C pins: 8 (out), 9 (in), 10 (in)
part D pins: 11 (out), 12 (in), 13 (in)
part E pins: 1 (in), 2 (in), 3 (out)

## 74HCT74-SOIC
designator U?, comment 74HCT74
D-Type positive edge triggered flip-flop w/ preset and clear.  2 Element; Manufacturer: Texas Instruments/Fairchild Semiconductor/NXP Semiconductor; Logic Type: D-Type Flip Flop; Max Propagation Delay: 40nS @ 5V; Output Current (High/Low): 400uA, 8mA; Supply Voltage: 4.75V~5.25V; Output Type: Differential; Logic Level (High): *; Logic Level (Low): *; Package Description: SOIC, 14-Leads, Body 8.65x3.90mm, Pitch 1.27mm, IPC Low Density; Package Type: *; Supplier 1: Newark; Supplier Part Number 1: 98K0335; Supplier 2: Mouser; Supplier Part Number 2: 595-SN74HCT74D; Supplier 3: Digi-Key; Supplier Part Number 3: 296-1211-5-ND; Verified By: KMc; Part Number: 74HCT74
footprint SOIC-14 (SOIC, 14-Leads, Body 8.65x3.90mm, Pitch 1.27mm, IPC Low Density)
3D model SOIC-14 (PCB3D Model)
signal-integrity model 74HCT74 (74HCT74 IBIS Signal Integrity Model)
ibis MC74HCT74AD (74HCT14 IBIS Model)
part A pins: 7 GND (power), 14 VCC (power)
part B pins: 8 ~{Q} (out), 9 Q (out), 10 ~{PRE} (in), 11 CLK (in), 12 D (in), 13 ~{CLR} (in)
part C pins: 1 ~{CLR} (in), 2 D (in), 3 CLK (in), 4 ~{PRE} (in), 5 Q (out), 6 ~{Q} (out)

## 74HCT107-SOIC
designator U?, comment 74HCT107
Negative edge triggered J-K Flip Flop with Reset  2 Element.; Manufacturer: Texas Instruments/Fairchild Semiconductor/NXP Semiconductor; Logic Type: JK Flip Flop; Max Propagation Delay: 36nS @4.5V; Output Current (High/Low): 4mA/4mA; Supply Voltage: 4.5V~5.5V; Output Type: Differential; Logic Level (High): *; Logic Level (Low): *; Package Description: SOIC, 14-Leads, Body 8.65x3.90mm, Pitch 1.27mm, IPC Low Density; Package Type: SOIC-14; Supplier 1: Digi-Key; Supplier Part Number 1: 568-2763-5-ND; Supplier 2: Mouser; Supplier Part Number 2: 771-HCT107D652; Verified By: KMc; Part Number: 74HCT107
footprint SOIC-14 (SOIC, 14-Leads, Body 8.65x3.90mm, Pitch 1.27mm, IPC Low Density)
3D model SOIC-14 (PCB3D Model)
part A pins: 7 GND (power), 14 VCC (power)
part B pins: 5 Q (out), 6 ~{Q} (out), 8 J (in), 9 ~{CLK} (in), 10 ~{RESET} (in), 11 K (in)
part C pins: 1 J (in), 2 ~{Q} (out), 3 Q (out), 4 K (in), 12 ~{CLK} (in), 13 ~{RESET} (in)

## 74HCT123-SOIC
designator U?, comment 74HCT123
Retriggerable monostable multivibrator with reset.  2 Element; Manufacturer: Texas Instruments/Fairchild Semiconductor/NXP Semiconductor; Supply Voltage: 4.5V~5.5V; Logic Level (Low): 0.8V (Max); Logic Level (High): 2.0V (Min); Max Propagation Delay: 77nS; Output Current (High/Low): 4mA/4mA; Logic Type: Monostable Multivibrator; Package Description: SOIC, 16-Leads, Body 9.90x3.90mm, Pitch 1.27mm, IPC Low Density; Package Type: SOIC-16; Supplier 1: Newark; Supplier Part Number 1: 71R1230; Supplier 2: Digi-Key; Supplier Part Number 2: 568-9983-6-ND; Supplier 3: Mouser; Supplier Part Number 3: 771-74HCT123D-T; Verified By: KMc; Part Number: 74HCT123
footprint SOIC-16 (SOIC, 16-Leads, Body 9.90x3.90mm, Pitch 1.27mm, IPC Low Density)
3D model SOIC-16 (PCB3D Model)
part A pins: 8 GND (power), 16 VCC (power)
part B pins: 5 2Q (out), 6 2CEXT, 7 2REXT/CEXT, 9 2~{A} (in), 10 2B (in), 11 2~{RD} (in), 12 2~{Q} (out)
part C pins: 1 1~{A} (in), 2 1B (in), 3 1~{RD} (in), 4 1~{Q} (out), 13 1Q (out), 14 1CEXT, 15 1REXT/CEXT

## 74HCT132-SOIC
designator U?, comment 74HCT132
2 Input Positive NAND gate, Schmitt Triggers.  4 Element; Manufacturer: Texas Instruments/Fairchild Semiconductor/NXP Semiconductor; Logic Level (High): 1.9V~2.1V; Logic Level (Low): 0.5V~0.6V; Max Propagation Delay: 33nS @ 4.5V; Output Current (High/Low): 4mA/4mA; Supply Voltage: 4.5V~5.5V; Logic Type: NAND Gate; Package Description: SOIC, 14-Leads, Body 8.65x3.90mm, Pitch 1.27mm, IPC Low Density; Package Type: SOIC-14; Supplier 1: Mouser; Supplier Part Number 1: 771-HCT132D652; Supplier 2: Digi-Key; Supplier Part Number 2: 568-2774-5-ND; Supplier 3: Newark; Supplier Part Number 3: 71R1251; Verified By: KMc; Part Number: 74HCT132
footprint SOIC-14 (SOIC, 14-Leads, Body 8.65x3.90mm, Pitch 1.27mm, IPC Low Density)
3D model SOIC-14 (PCB3D Model)
part A pins: 7 GND (power), 14 VCC (power)
part B pins: 4 (in), 5 (in), 6 (out)
part C pins: 8 (out), 9 (in), 10 (in)
part D pins: 11 (out), 12 (in), 13 (in)
part E pins: 1 (in), 2 (in), 3 (out)

## 74HCT138-SOIC
designator U?, comment 74HCT138
3-Line to 8-Line Decoders/Demultiplexers; Manufacturer: Texas Instruments/Fairchild Semiconductor/NXP Semiconductor; Logic Type: Decoder/Demultiplexer; Output Current (High/Low): 4mA/4mA; Supply Voltage: 4.5V~5.5V; Logic Level (High): *; Logic Level (Low): *; Max Propagation Delay: *; Package Description: SOIC, 16-Leads, Body 9.90x3.90mm, Pitch 1.27mm, IPC Low Density; Package Type: SOIC-16; Supplier 1: Mouser; Supplier Part Number 1: 595-SN74HCT138D; Supplier 2: Newark; Supplier Part Number 2: 52F2352; Supplier 3: Digi-Key; Supplier Part Number 3: 296-8387-5-ND; Verified By: KMc; Part Number: 74HCT138
footprint SOIC-16 (SOIC, 16-Leads, Body 9.90x3.90mm, Pitch 1.27mm, IPC Low Density)
3D model SOIC-16 (PCB3D Model)
ibis MC74HCT138AD (74HCT138 IBIS Model)
signal-integrity model 74HCT138 (74HCT138 IBIS Signal Integrity Model)
pins: 1 A (in), 2 B (in), 3 C (in), 4 ~{G}2A (in), 5 ~{G}2B (in), 6 G1 (in), 7 Y7 (out), 8 GND (power), 9 Y6 (out), 10 Y5 (out), 11 Y4 (out), 12 Y3 (out), 13 Y2 (out), 14 Y1 (out), 15 Y0 (out), 16 VCC (power)

## 74HCT151-SOIC
designator U?, comment 74HCT151
Octal D-Type positive edge triggered flip flop.  3 State.; Manufacturer: Texas Instruments/Fairchild Semiconductor/NXP Semiconductor; Logic Type: Multiplexer; Output Current (High/Low): 4mA/4mA; Supply Voltage: 4.5V~5.5V; Logic Level (High): *; Logic Level (Low): *; Max Propagation Delay: *; Package Description: SOIC, 16-Leads, Body 9.90x3.90mm, Pitch 1.27mm, IPC Low Density; Package Type: SOIC-16; Supplier 1: Newark; Supplier Part Number 1: 71R1284; Supplier 2: Mouser; Supplier Part Number 2: 771-74HCT151D; Supplier 3: Digi-Key; Supplier Part Number 3: 568-2779-5-ND; Verified By: KMc; Part Number: 74HCT151
footprint SOIC-16 (SOIC, 16-Leads, Body 9.90x3.90mm, Pitch 1.27mm, IPC Low Density)
3D model SOIC-16 (PCB3D Model)
pins: 1 I3 (in), 2 I2 (in), 3 I1 (in), 4 I0 (in), 5 Y (out), 6 ~{Y} (out), 7 ~{E} (in), 8 GND (power), 9 S2 (in), 10 S1 (in), 11 S0 (in), 12 I7 (in), 13 I6 (in), 14 I5 (in), 15 I4 (in), 16 VCC (power)

## 74HCT161-SOIC
designator U?, comment 74HCT161
Presettable Synchronous 4 bit Binary Counter; Manufacturer: Texas Instruments/Fairchild Semiconductor/NXP Semiconductor; Reset: Asynchronous; Supply Voltage: 4.5V~5.5V; Trigger type: Positive Edge; Timing: Synchronous; Logic Type: Binary Counter; Max Propagation Delay: *; Output Current (High/Low): *; Package Description: SOIC, 16-Leads, Body 9.90x3.90mm, Pitch 1.27mm, IPC Low Density; Package Type: SOIC-16; Supplier 1: Mouser; Supplier Part Number 1: 595-CD74HCT161M; Supplier 2: Newark; Supplier Part Number 2: 50R5237; Supplier 3: Digi-Key; Supplier Part Number 3: 296-9256-5-ND; Verified By: KMc; Part Number: 74HCT161
footprint SOIC-16 (SOIC, 16-Leads, Body 9.90x3.90mm, Pitch 1.27mm, IPC Low Density)
3D model SOIC-16 (PCB3D Model)
pins: 1 ~{MR} (in), 2 CLK (in), 3 D0 (in), 4 D1 (in), 5 D2 (in), 6 D3 (in), 7 CEP (in), 8 GND (power), 9 ~{PE} (in), 10 CET (in), 11 Q3 (out), 12 Q2 (out), 13 Q1 (out), 14 Q0 (out), 15 TC (out), 16 VCC (power)

## 74HCT241-SOIC
designator U?  Part Number: 74HCT241  (hidden comment: 74HCT241-SOIC)
Buffer/Line Driver, Tri-State, Dual; Manufacturer: Texas Instruments/NXP/ON Semi; Logic Type: Buffer/Line Driver, Non-Inverting; Output Current (High/Low): 6mA/6mA; Supply Voltage: 4.5-5.5V; Logic Level (High): *; Logic Level (Low): *; Max Propagation Delay: *; Package Description: SOIC, 20-Leads, Body 12.80x7.50mm, Pitch 1.27mm, IPC Low Density; Package Type: SOIC-20-WIDE; Verified By: KMc; Supplier 1: Newark; Supplier Part Number 1: 71R1442; Supplier 2: Mouser; Supplier Part Number 2: 771-HCT241PW112; Supplier 3: Digi-Key; Supplier Part Number 3: 296-33140-5-ND
footprint SOIC-20-WIDE (SOIC, 20-Leads, Body 12.80x7.50mm, Pitch 1.27mm, IPC Low Density)
3D model SOIC_20-wide (PCB3D Model)
pins: 1 ~{1OE} (in), 2 1A0 (in), 3 2Y3 (out), 4 1A1 (in), 5 2Y2 (out), 6 1A2 (in), 7 2Y1 (out), 8 1A3 (in), 9 2Y0 (out), 10 GND (power), 11 2A0 (in), 12 1Y3 (out), 13 2A1 (in), 14 1Y2 (out), 15 2A2 (in), 16 1Y1 (out), 17 2A3 (in), 18 1Y0 (out), 19 2OE (in), 20 VCC (power)

## 74HCT245-SOICW
designator U?, comment 74HCT245
Octal Bidirectional Transceiver with 3 State I/O; Manufacturer: Texas Instruments/Fairchild Semiconductor/NXP Semiconductor; Output Current (High/Low): 6mA/6mA; Supply Voltage: 4.5V~5.5V; Logic Level (High): *; Logic Level (Low): *; Logic Type: Transceiver; Max Propagation Delay: *; Package Description: SOIC, 20-Leads, Body 12.80x7.50mm, Pitch 1.27mm, IPC Low Density; Package Type: SOIC-20-WIDE; Supplier 1: Newark; Supplier Part Number 1: 97K5216; Supplier 2: Mouser; Supplier Part Number 2: 512-MM74HCT245WM; Supplier 3: Digi-Key; Supplier Part Number 3: MM74HCT245WM-ND; Verified By: KMc; Part Number: 74HCT245
footprint SOIC-20-WIDE (SOIC, 20-Leads, Body 12.80x7.50mm, Pitch 1.27mm, IPC Low Density)
3D model SOIC_20-wide (PCB3D Model)
ibis MC74HCT245ADW (74HCT245 IBIS Model)
signal-integrity model 74HCT245 (74HCT245 IBIS Signal Integrity Model)
pins: 1 T/~{R} (in), 2 A0 (io), 3 A1 (io), 4 A2 (io), 5 A3 (io), 6 A4 (io), 7 A5 (io), 8 A6 (io), 9 A7 (io), 10 GND (power), 11 B7 (io), 12 B6 (io), 13 B5 (io), 14 B4 (io), 15 B3 (io), 16 B2 (io), 17 B1 (io), 18 B0 (io), 19 ~{OE} (in), 20 VCC (power)

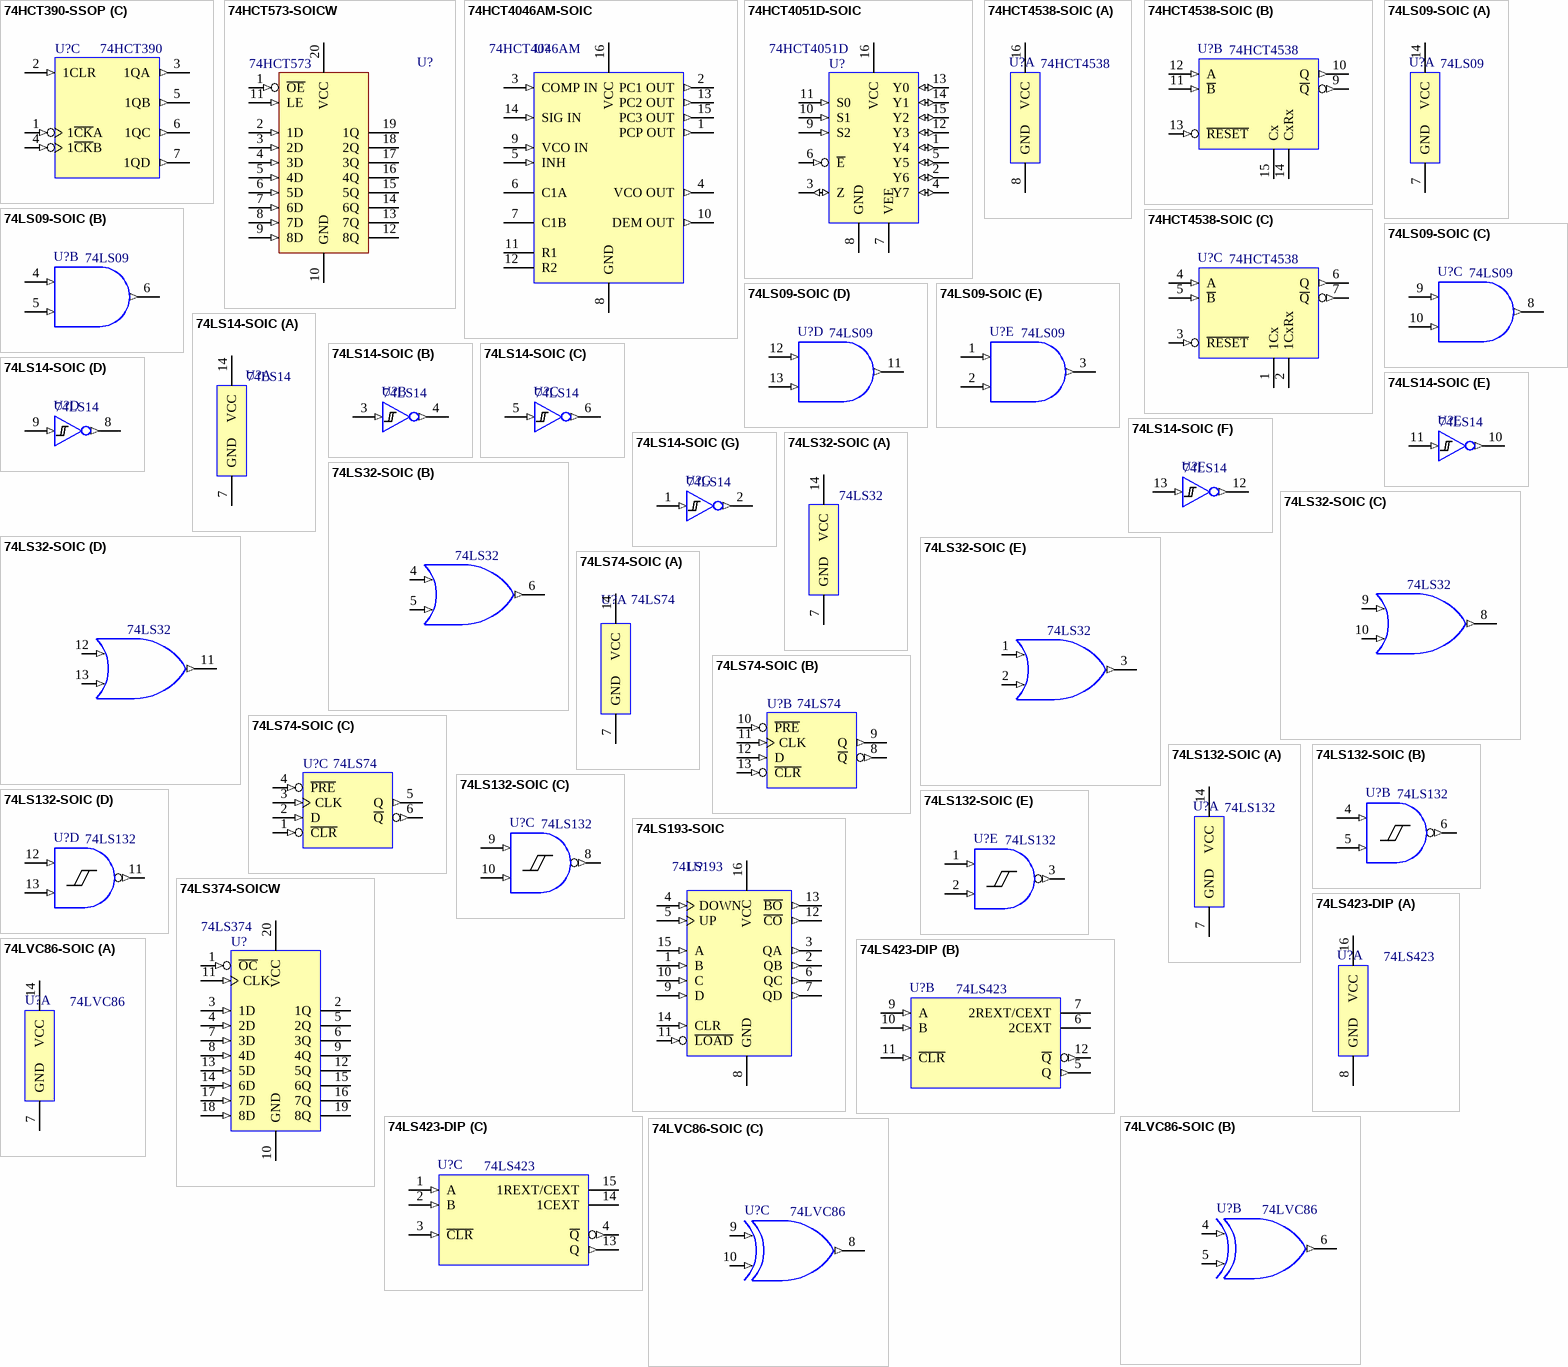
[diagram p3: symbols 74HCT390-SSOP to 74LVC86-SOIC]

## 74HCT390-SSOP
designator U?, comment 74HCT390
4 Bit decade and bi-quinary ripple counter, negative edge trigger.  2 Element; Manufacturer: Texas Instruments/Fairchild Semiconductor/NXP Semiconductor; Logic Type: Counter, Decade; Supply Voltage: 4.5V~5.5V; Logic Level (High): *; Logic Level (Low): *; Max Propagation Delay: *; Output Current (High/Low): *; Package Description: SOP, 16-Leads, Body 6.2x5.3mm, Pitch 0.65mm, IPC Low Density; Package Type: SSOP-16; Supplier 1: Digi-Key; Supplier Part Number 1: 568-2834-5-ND; Supplier 2: Mouser; Supplier Part Number 2: 771-HCT390DB112; Verified By: KMc; Part Number: 74HCT390
footprint SSOP-16 (SOP, 16-Leads, Body 6.2x5.3mm, Pitch 0.65mm, IPC Low Density)
3D model SSOP-16 (PCB3D Model)
part A pins: 8 GND (power), 16 VCC (power)
part B pins: 9 2QD (out), 10 2QC (out), 11 2QB (out), 12 2~{CK}B (in), 13 2QA (out), 14 2CLR (in), 15 2~{CK}A (in)
part C pins: 1 1~{CK}A (in), 2 1CLR (in), 3 1QA (out), 4 1~{CK}B (in), 5 1QB (out), 6 1QC (out), 7 1QD (out)

## 74HCT573-SOICW
designator U?, comment 74HCT573
Octal D-Type 3 State Transparent Latch; Manufacturer: Texas Instruments/Fairchild Semiconductor/NXP Semiconductor; Max Propagation Delay: 17nS; Output Current (High/Low): 6mA/6mA; Supply Voltage: 4.5V~5.5V; Logic Level (High): *; Logic Level (Low): *; Logic Type: Latch; Package Description: SOIC, 20-Leads, Body 12.80x7.50mm, Pitch 1.27mm, IPC Low Density; Package Type: SOIC-20-Wide; Supplier 1: Digi-Key; Supplier Part Number 1: 296-1210-5-ND; Supplier 2: Newark; Supplier Part Number 2: 36K3551; Supplier 3: Mouser; Supplier Part Number 3: 595-SN74HCT573DW; Verified By: KMc; Part Number: 74HCT573
footprint SOIC-20-WIDE (SOIC, 20-Leads, Body 12.80x7.50mm, Pitch 1.27mm, IPC Low Density)
3D model SOIC_20-wide (PCB3D Model)
signal-integrity model 74HCT573 (74HCT573 IBIS Signal Integrity Model)
ibis MC74HCT573ADW (Model Description)
pins: 1 ~{OE} (in), 2 1D (in), 3 2D (in), 4 3D (in), 5 4D (in), 6 5D (in), 7 6D (in), 8 7D (in), 9 8D (in), 10 GND (power), 11 LE (in), 12 8Q (hiz), 13 7Q (hiz), 14 6Q (hiz), 15 5Q (hiz), 16 4Q (hiz), 17 3Q (hiz), 18 2Q (hiz), 19 1Q (hiz), 20 VCC (power)

## 74HCT4046AM-SOIC
designator U?, comment 74HCT4046AM
Phase Lock Loop with Voltage Controlled Oscillator (38MHz Max); Manufacturer: Texas Instruments/Fairchild Semiconductor/NXP Semiconductor; Supply Voltage: 4.5V~5.5V; Ratio Input:Output: 1:4; Dividier/Multiplier: No/No; Logic Level (High): -; Logic Level (Low): -; Logic Type: Phase Lock Loop; Max Propagation Delay: -; Output Current (High/Low): -; Package Description: SOIC, 16-Leads, Body 9.90x3.90mm, Pitch 1.27mm, IPC Low Density; Package Type: SOIC-16; Frequency (Max): 38MHz; Supplier 1: Newark; Supplier Part Number 1: 34K2415; Supplier 2: Digi-Key; Supplier Part Number 2: 296-9275-5-ND; Supplier 3: Mouser; Supplier Part Number 3: 595-CD74HCT4046AM; Verified By: KMc; Part Number: 74HCT4046AM
footprint SOIC-16 (SOIC, 16-Leads, Body 9.90x3.90mm, Pitch 1.27mm, IPC Low Density)
3D model SOIC-16 (PCB3D Model)
pins: 1 PCP OUT (out) "Phase Comparator Pulse Output", 2 PC1 OUT (out) "Phase Comparator 1 Output", 3 COMP IN (in) "Comparator Input", 4 VCO OUT (out) "VCO Output", 5 INH (in) "Inhibit Input", 6 C1A "Capacitor C1 connection A", 7 C1B "Capacitor C1 connection B", 8 GND (power), 9 VCO IN (in) "VCO Input", 10 DEM OUT (out) "Demodulator Output", 11 R1 "Resistor R1 Connection", 12 R2 "Resistor R2 Connection", 13 PC2 OUT (out) "Phase Comparator 2 Output", 14 SIG IN (in) "Signal Input", 15 PC3 OUT (out) "Phase Comparator 3 Output", 16 VCC (power)